# Altium schematic symbol library LM5008.Schlib: 1 symbol
Pins are listed as number, name and electrical type; pins without a type are passive.

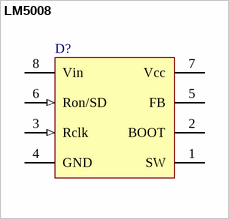
[diagram p0: symbol LM5008]

## LM5008
designator D?
Step Down Switching Regulator; Package Information: Latest Revision: ver11.0, Feb-2003; Configures: APEX II, APEX 20K, Mercury, ACEX 1K & FLEX Devices; Code - JEDEC: MS-026-ABA; Published: 17-Sep-2003; Datasheet: Latest Revision: ver1.1, Oct-2003; Package Reference: TQFP32; Publisher: Altium Limited
footprint u_SO-8
pins: 1 SW (power), 2 BOOT (power), 3 Rclk (in), 4 GND (power), 5 FB (power), 6 Ron/SD (in), 7 Vcc (power), 8 Vin (power)